# EAGLE library part FTSH-105-01-F-D-K (library sjunglib)
Standard SWD header Pinout: Vtref GND GND Key (no pin) GND detect RESET (target) NC/TDI SWO/TDO SWCLK/TCLK SWDIO/TMS
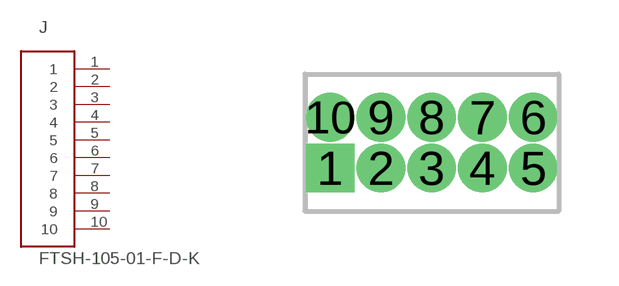
[diagram p9: symbol with the pads of FTSH-105-01-F-D-K; footprint FTSH-105-01-F-D-K]

Designator prefix J

## FTSH-105-01-F-D-K  [FTSH-105-01-F-D-K]
1  1  pas
2  2  pas
3  3  pas
4  4  pas
5  5  pas
6  6  pas
7  7  pas
8  8  pas
9  9  pas
10  10  pas

## Footprint FTSH-105-01-F-D-K (pad centres in mm)
FTSH-105-01-F-D-K Footprint for Samtec FTSH-105-01-F-D-K 5x2 polarized header Drill dia: 0.028" Pad dia: 0.04" Pitch: 0.05" (50mil / 1.27mm) Row spacing: 0.05" (50mil / 1.27mm)
drill 0.711 pad 1.016 square: 1 -2.54,-0.635
drill 0.711 pad 1.016: 2 -1.27,-0.635; 3 0,-0.635; 4 1.27,-0.635; 5 2.54,-0.635; 6 2.54,0.635; 7 1.27,0.635; 8 0,0.635; 9 -1.27,0.635; 10 -2.54,0.635